# Altium footprint library MCU - AVR.PcbLib: 9 footprints
Each footprint in its own frame and in the unit in brackets; x right, y up, seen from the top. Pads: shape width x height; smd on the part's side, far side on the other; paste and mask are expansions set on the pad; w line width, h text height; cw(c..) or ccw(c..) is an arc to the next point about the centre after c.
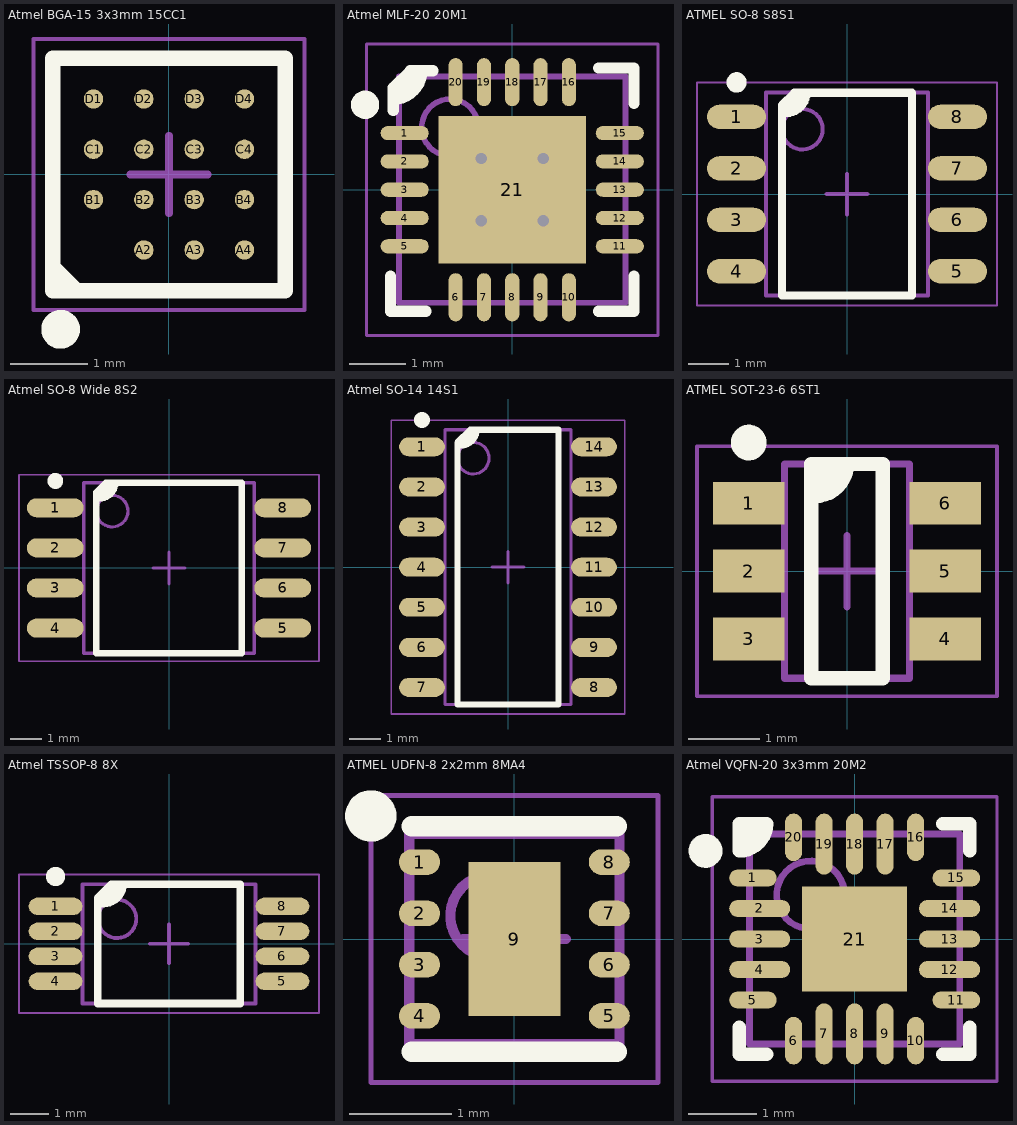
[diagram p0: the footprints below, top view; thin cyan lines are the x and y axes]

## Atmel BGA-15 3x3mm 15CC1 [mm] "BGA, 15-Leads, Body 3.00x3.00mmx0.60mm, Pitch 0.65mm"
height 0.6
pads (15):
  round 0.25 smd: A2(-0.325,-0.975) A3(0.325,-0.975) A4(0.975,-0.975) B1(-0.975,-0.325) B2(-0.325,-0.325) B3(0.325,-0.325) B4(0.975,-0.325) C1(-0.975,0.325) C2(-0.325,0.325) C3(0.325,0.325) C4(0.975,0.325) D1(-0.975,0.975) D2(-0.325,0.975) D3(0.325,0.975) D4(0.975,0.975)
Top Overlay:
  circle w0.25: c-1.4,-2 r0.125
  region: -1.5,-1.192 -1.192,-1.5 -1.5,-1.5
  lines w0.2: -1.5,-1.192 -1.192,-1.5 ; -1.5,-1.5 -1.5,1.5 1.5,1.5 1.5,-1.5 -1.5,-1.5
Mechanical 13:
  lines w0.1: -1.5,-1.5 -1.5,1.5 1.5,1.5 1.5,-1.5 -1.5,-1.5
Mechanical 15:
  lines w0.05: -1.75,-1.75 -1.75,1.75 1.75,1.75 1.75,-1.75 -1.75,-1.75
  lines w0.1: -0.5,0 0.5,0 ; 0,-0.5 0,0.5
3D body: height 0.6, standoff 0.12, extent -1.5,-1.5 1.5,1.5

## Atmel MLF-20 20M1 [mm] "QFN, 20-Leads, Body 4.00x4.00mm, Pitch 0.50mm, Thermal Pad 2.60x2.60mm, IPC Medium Density"
height 0.8
pads (21):
  oval 0.85x0.25 smd: 1(-1.9,1) 2(-1.9,0.5) 3(-1.9,0) 4(-1.9,-0.5) 5(-1.9,-1) 11(1.9,-1) 12(1.9,-0.5) 13(1.9,0) 14(1.9,0.5) 15(1.9,1)
  oval 0.25x0.85 smd: 6(-1,-1.9) 7(-0.5,-1.9) 8(0,-1.9) 9(0.5,-1.9) 10(1,-1.9) 16(1,1.9) 17(0.5,1.9) 18(0,1.9) 19(-0.5,1.9) 20(-1,1.9)
  rect 2.6x2.6 smd: 21(0,0)
via 0.55,-0.55 diameter 0.5 hole 0.2
via -0.55,-0.55 diameter 0.5 hole 0.2
via 0.55,0.55 diameter 0.5 hole 0.2
via -0.55,0.55 diameter 0.5 hole 0.2
Top Overlay:
  circle w0.25: c-2.6,1.5 r0.125
  region: -1.9,2.1 -1.6,2.1 -1.6,2.001 -1.676,1.817 -1.817,1.676 -2.001,1.6 -2.1,1.6 -2.2,1.6 -2.2,1.8
  lines w0.2: -2.15,-1.525 -2.15,-2.15 -1.525,-2.15 ; -2.1,1.4 -2.1,1.8 -1.8,2.1 -1.4,2.1 ; -2.1,1.6 ccw(c-2.1,2.1) -1.6,2.1 ; 1.525,-2.15 2.15,-2.15 2.15,-1.525 ; 1.525,2.15 2.15,2.15 2.15,1.525
Mechanical 13:
  circle w0.1: c-1.1,1.1 r0.5
  lines w0.1: -2,-2 2,-2 2,2 -2,2 -2,-2
Mechanical 15:
  lines w0.05: -2.575,-2.575 2.575,-2.575 2.575,2.575 -2.575,2.575 -2.575,-2.575
  lines w0.1: -0.5,0 0.5,0 ; 0,-0.5 0,0.5
3D body: height 0.8, standoff 0.01, extent -2,-2 2,2

## ATMEL SO-8 S8S1 [mm] "SOIC, 8-Leads, Body 4.89x3.90mm, Pitch 1.27mm, IPC Medium Density"
height 1.75
pads (8):
  oval 1.45x0.6 smd: 1(-2.725,1.905) 2(-2.725,0.635) 3(-2.725,-0.635) 4(-2.725,-1.905) 5(2.725,-1.905) 6(2.725,-0.635) 7(2.725,0.635) 8(2.725,1.905)
Top Overlay:
  circle w0.25: c-2.725,2.755 r0.125
  region: -1.3,2.5 -1,2.5 -1,2.401 -1.076,2.217 -1.217,2.076 -1.401,2 -1.5,2 -1.6,2 -1.6,2.2
  lines w0.2: -1.6,2 -1.5,2 ccw(c-1.5,2.5) -1,2.5 ; -1.6,-2.5 1.6,-2.5 1.6,2.5 -1.3,2.5 -1.6,2.2 -1.6,-2.5
Mechanical 13:
  circle w0.1: c-1.1,1.6 r0.5
  lines w0.1: -2,-2.5 -2,2.5 2,2.5 2,-2.5 -2,-2.5
Mechanical 15:
  lines w0.05: -3.7,-2.75 -3.7,2.75 3.7,2.75 3.7,-2.75 -3.7,-2.75
  lines w0.1: -0.5,0 0.5,0 ; 0,-0.5 0,0.5
3D body "SO-8.STEP": height 1.5, standoff 0, extent -3.014,-2.45 3.014,2.45

## Atmel SO-8 Wide 8S2 [mm] "SOIC, 8-Leads, Body 5.24x5.29mm, Pitch 1.27mm, IPC Medium Density"
height 2.16
pads (8):
  oval 1.8x0.6 smd: 1(-3.6,1.905) 2(-3.6,0.635) 3(-3.6,-0.635) 4(-3.6,-1.905) 5(3.6,-1.905) 6(3.6,-0.635) 7(3.6,0.635) 8(3.6,1.905)
Top Overlay:
  circle w0.25: c-3.6,2.755 r0.125
  region: -2,2.7 -1.7,2.7 -1.7,2.601 -1.776,2.417 -1.917,2.276 -2.101,2.2 -2.2,2.2 -2.3,2.2 -2.3,2.4
  lines w0.2: -2.3,2.2 -2.2,2.2 ccw(c-2.2,2.7) -1.7,2.7 ; -2.3,-2.7 2.3,-2.7 2.3,2.7 -2,2.7 -2.3,2.4 -2.3,-2.7
Mechanical 13:
  circle w0.1: c-1.8,1.8 r0.5
  lines w0.1: -2.7,-2.7 2.7,-2.7 2.7,2.7 -2.7,2.7 -2.7,-2.7
Mechanical 15:
  lines w0.05: -4.75,-2.95 4.75,-2.95 4.75,2.95 -4.75,2.95 -4.75,-2.95
  lines w0.1: -0.5,0 0.5,0 ; 0,-0.5 0,0.5
3D body "SO-8 208mil.STEP": height 1.5, standoff 0, extent -4.014,-2.642 4.014,2.641

## Atmel SO-14 14S1 [mm] "SOIC, 14-Leads, Body 8.65x3.90mm, Pitch 1.27mm, IPC Medium Density"
height 1.75
pads (14):
  oval 1.45x0.6 smd: 1(-2.725,3.81) 2(-2.725,2.54) 3(-2.725,1.27) 4(-2.725,0) 5(-2.725,-1.27) 6(-2.725,-2.54) 7(-2.725,-3.81) 8(2.725,-3.81) 9(2.725,-2.54) 10(2.725,-1.27) 11(2.725,0) 12(2.725,1.27) 13(2.725,2.54) 14(2.725,3.81)
Top Overlay:
  circle w0.25: c-2.725,4.66 r0.125
  region: -1.3,4.35 -1,4.35 -1,4.251 -1.076,4.067 -1.217,3.926 -1.401,3.85 -1.5,3.85 -1.6,3.85 -1.6,4.05
  lines w0.2: -1.6,3.85 -1.5,3.85 ccw(c-1.5,4.35) -1,4.35 ; -1.6,-4.35 1.6,-4.35 1.6,4.35 -1.2,4.35 -1.6,3.95 -1.6,-4.35
Mechanical 13:
  circle w0.1: c-1.1,3.45 r0.5
  lines w0.1: -2,-4.35 -2,4.35 2,4.35 2,-4.35 -2,-4.35
Mechanical 15:
  lines w0.05: -3.7,-4.65 -3.7,4.65 3.7,4.65 3.7,-4.65 -3.7,-4.65
  lines w0.1: -0.5,0 0.5,0 ; 0,-0.5 0,0.5
3D body "SO-14 150mil Wide.STEP": height 1.65, standoff 0, extent -3.01,-4.325 3.01,4.325

## ATMEL SOT-23-6 6ST1 [mm] "SOT23, 6-Leads, Body 2.90x2.80mm, Pitch 0.95mm, IPC Medium Density"
height 1.45
pads (6):
  rect 1x0.6 smd: 1(-1.375,0.95) 2(-1.375,0) 3(-1.375,-0.95) 4(1.375,-0.95) 5(1.375,0) 6(1.375,0.95)
Top Overlay:
  circle w0.25: c-1.375,1.8 r0.125
  region: -0.5,1.5 0,1.5 0,1.35 -0.3,1.05 -0.5,1.05
  lines w0.2: -0.5,1.05 -0.45,1.05 ccw(c-0.45,1.5) 0,1.5 ; -0.5,-1.5 0.5,-1.5 0.5,1.5 -0.5,1.5 -0.5,-1.5
Mechanical 13:
  lines w0.1: -0.875,-1.5 -0.875,1.5 0.875,1.5 0.875,-1.5 -0.875,-1.5
Mechanical 15:
  lines w0.05: -2.1,-1.75 -2.1,1.75 2.1,1.75 2.1,-1.75 -2.1,-1.75
  lines w0.1: -0.5,0 0.5,0 ; 0,-0.5 0,0.5
3D body "sot-23-6-atmel.STEP": height 1.45, standoff 0, extent -1.41,-1.45 1.41,1.45

## Atmel TSSOP-8 8X [mm] "TSSOP, 8-Leads, Body 3.00x4.40mm, Pitch 0.65mm, IPC Medium Density"
height 1.2
pads (8):
  oval 1.4x0.45 smd: 1(-2.95,0.975) 2(-2.95,0.325) 3(-2.95,-0.325) 4(-2.95,-0.975) 5(2.95,-0.975) 6(2.95,-0.325) 7(2.95,0.325) 8(2.95,0.975)
Top Overlay:
  circle w0.25: c-2.95,1.75 r0.125
  region: -1.5,1.55 -1.2,1.55 -1.2,1.451 -1.276,1.267 -1.417,1.126 -1.601,1.05 -1.7,1.05 -1.8,1.05 -1.8,1.25
  lines w0.2: -1.8,1.05 -1.7,1.05 ccw(c-1.7,1.55) -1.2,1.55 ; -1.85,-1.55 1.85,-1.55 1.85,1.55 -1.5,1.55 -1.85,1.2 -1.85,-1.55
Mechanical 13:
  circle w0.1: c-1.35,0.65 r0.5
  lines w0.1: -2.25,-1.55 -2.25,1.55 2.25,1.55 2.25,-1.55 -2.25,-1.55
Mechanical 15:
  lines w0.05: -3.9,-1.8 -3.9,1.8 3.9,1.8 3.9,-1.8 -3.9,-1.8
  lines w0.1: -0.5,0 0.5,0 ; 0,-0.5 0,0.5
3D body "TSSOP-8.STEP": height 1.2, standoff 0, extent -3.21,-1.5 3.211,1.5

## ATMEL UDFN-8 2x2mm 8MA4 [mm] "UDFN, 8-Leads, Body 2.00x2.00mm, Pitch 0.50mm, Thermal Pad 0.90x1.50mm, IPC Medium Density"
height 0.6
pads (9):
  oval 0.4x0.25 smd: 1(-0.925,0.75) 2(-0.925,0.25) 3(-0.925,-0.25) 4(-0.925,-0.75) 5(0.925,-0.75) 6(0.925,-0.25) 7(0.925,0.25) 8(0.925,0.75)
  rect 0.9x1.5 smd: 9(0,0)
Top Overlay:
  circle w0.25: c-1.4,1.2 r0.125
  lines w0.2: -1,-1.1 1,-1.1 ; -1,1.1 1,1.1
Mechanical 13:
  circle w0.1: c-0.225,0.225 r0.4
  lines w0.1: -1.025,-1.025 1.025,-1.025 1.025,1.025 -1.025,1.025 -1.025,-1.025
Mechanical 15:
  lines w0.05: -1.4,-1.4 1.4,-1.4 1.4,1.4 -1.4,1.4 -1.4,-1.4
  lines w0.1: -0.5,0 0.5,0 ; 0,-0.5 0,0.5
3D body: height 0.6, standoff 0.01, extent -1.025,-1.025 1.025,1.025

## Atmel VQFN-20 3x3mm 20M2 [mm] "VQFN, 20-Leads, Body 3.00x3.00mm, Pitch 0.45mm, Thermal Pad 1.55x1.55mm, IPC Medium Density"
height 0.85
pads (21):
  oval 0.7x0.25 smd: 1(-1.5,0.9) 5(-1.5,-0.9) 11(1.5,-0.9) 15(1.5,0.9)
  oval 0.9x0.25 smd: 2(-1.4,0.45) 3(-1.4,0) 4(-1.4,-0.45) 12(1.4,-0.45) 13(1.4,0) 14(1.4,0.45)
  oval 0.25x0.7 smd: 6(-0.9,-1.5) 10(0.9,-1.5) 16(0.9,1.5) 20(-0.9,1.5)
  oval 0.25x0.9 smd: 7(-0.45,-1.4) 8(0,-1.4) 9(0.45,-1.4) 17(0.45,1.4) 18(0,1.4) 19(-0.45,1.4)
  rect 1.55x1.55 smd: 21(0,0)
Top Overlay:
  circle w0.25: c-2.2,1.3 r0.125
  region: -1.7,1.7 -1.3,1.7 -1.3,1.5 -1.5,1.3 -1.7,1.3
  lines w0.2: -1.7,-1.3 -1.7,-1.7 -1.3,-1.7 ; 1.3,-1.7 1.7,-1.7 1.7,-1.3 ; 1.3,1.7 1.7,1.7 1.7,1.3 ; -1.7,1.3 ccw(c-1.7,1.7) -1.3,1.7 -1.7,1.7 -1.7,1.3
Mechanical 13:
  circle w0.1: c-0.65,0.65 r0.5
  lines w0.1: -1.55,-1.55 -1.55,1.55 1.55,1.55 1.55,-1.55 -1.55,-1.55
Mechanical 15:
  lines w0.05: -2.1,-2.1 -2.1,2.1 2.1,2.1 2.1,-2.1 -2.1,-2.1
  lines w0.1: -0.5,0 0.5,0 ; 0,-0.5 0,0.5
3D body: height 0.85, standoff 0.01, extent -1.55,-1.55 1.55,1.55